# Altium schematic symbol library RPi_SyncInputAdapter_SchLib.SchLib: 8 symbols
Pins are listed as number, name and electrical type; pins without a type are passive.

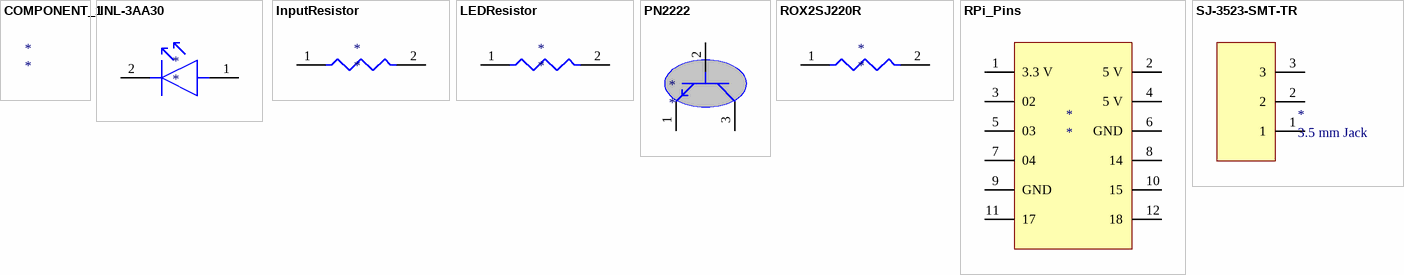
[diagram p0: symbols COMPONENT_1 to SJ-3523-SMT-TR]

## COMPONENT_1
designator *

## INL-3AA30
designator *
LED AMBER CLEAR 3MM T/H; Manufacturer: Inolux; Manufacturer Part Number: INL-3AA30; Lens Color: Colorless; Lens Style: Round,Domed; Luminous Intensity: 460mcd; Forward Voltage: 2V; Test Current: 20mA; Viewing Angle: 30°; Dominant Wavelength: 610nm; Supplier 1: Digi-Key; Supplier Part Number 1: 1830-1001-ND; Stock 1: 1251; Pricing 1: 1=0.32, 10=0.256, 100=0.115, 500=0.10388, 1000=0.08533, 2000=0.0742, 5000=0.06678, 10000=0.05936, 25000=0.05565 (USD); Mount: Through Hole; Case/Package: Radial; Color: Orange; Packaging: Bulk; Lens Transparency: Clear; Height: 5.08mm; Lens Size: 3mm; ComponentLink1URL: http://www.inolux-corp.com/datasheet/Display/Through-Hole-Display/Round-Lamp/INL-3AX30%20series.pdf?src-supplier=Digi-Key; ComponentLink1Description: http://www.inolux-corp.com/datasheet/Display/Through-Hole-Display/Round-Lamp/INL-3AX30%20series.pdf?src-supplier=Digi-Key
footprint LED
pins: 1, 2

## InputResistor
designator *
footprint TypicalResistor
pins: 1, 2

## LEDResistor
designator *
footprint TypicalResistor
pins: 1, 2

## PN2222
designator *
TRANS NPN 30V 0.6A TO92; Manufacturer: ON Semiconductor / Fairchild; Manufacturer Part Number: PN2222; hFE Min: 35; Max Power Dissipation: 625mW; Collector Base Voltage (VCBO): 60V; Emitter Base Voltage (VEBO): 5V; Max Collector Current: 600mA; Element Configuration: Single; Gain Bandwidth Product: 250MHz; Collector Emitter Saturation Voltage: 1.6V; Number of Elements: 1; Supplier 1: Digi-Key; Supplier Part Number 1: PN2222OS-ND; Stock 1: 0; Mount: Through Hole; Case/Package: TO-92-3; Number of Pins: 3; Min Operating Temperature: -55°C; Max Operating Temperature: 150°C; Polarity: NPN; Collector Emitter Voltage (VCEO): 30V; Packaging: Bulk; Package Quantity: 5000; Power Dissipation: 625mW; Frequency: 250MHz; Collector Emitter Breakdown Voltage: 30V; Transition Frequency: 250MHz; Collector-emitter Voltage-Max: 1.6V; Series: -; RoHS Compliant: No; ComponentLink1URL: http://www.onsemi.com/pub/Collateral/PN2222-D.PDF?src-supplier=Digi-Key; ComponentLink1Description: http://www.onsemi.com/pub/Collateral/PN2222-D.PDF?src-supplier=Digi-Key
footprint PN2222_Transistor
pins: 1, 2, 3

## ROX2SJ220R
designator *
Through Hole Resistor, ROX Series, 220 ohm, 2 W, 5%, 350 V, Axial Leaded ;RoHS Compliant: Yes; Manufacturer: TE Connectivity; Manufacturer Part Number: ROX2SJ220R; Resistance: 220R; Power Rating: 2W; Temperature Coefficient: 350ppm/°C; Voltage Rating: 350V; Number of Resistors: 1; Lead Length: 25mm; Supplier 1: Digi-Key; Supplier Part Number 1: A105924CT-ND; Stock 1: 2941; Pricing 1: 1=0.37, 10=0.31, 25=0.2256, 50=0.1636, 100=0.1213, 250=0.09308, 500=0.07334 (USD); Mount: Axial; Case/Package: Axial; Min Operating Temperature: -55°C; Max Operating Temperature: 235°C; Tolerance: 5%; Resistor Type: Power resistor; Termination: Axial; Packaging: Cut Tape; Number of Terminations: 2; Series: ROX, Neohm; Max Power Dissipation: 2W; Voltage Rating (DC): 350V; Lead/Base Style: Axial; Resistance Tolerance: 5%; Diameter: 4mm; Length: 12mm; RoHS Compliant: Yes; REACH SVHC: No SVHC; ELV: Compliant; ComponentLink1URL: http://www.farnell.com/datasheets/1888337.pdf?src-supplier=Element14; ComponentLink1Description: http://www.farnell.com/datasheets/1888337.pdf?src-supplier=Element14; ComponentLink2URL: https://www.alliedelec.com/m/d/21e4c3905f5e93a8fef713959b1b7f62.pdf?src-supplier=Allied+Electronics; ComponentLink2Description: https://www.alliedelec.com/m/d/21e4c3905f5e93a8fef713959b1b7f62.pdf?src-supplier=Allied+Electronics
pins: 1, 2

## RPi_Pins
designator *
footprint RPi_Interface
pins: 1 3.3 V, 2 5 V, 3 02, 4 5 V, 5 03, 6 GND, 7 04, 8 14, 9 GND, 10 15, 11 17, 12 18

## SJ-3523-SMT-TR
designator *, comment 3.5 mm Jack
CONN JACK STEREO 3.5MM SMD R/A; Manufacturer: CUI; Manufacturer Part Number: SJ-3523-SMT-TR; Gender: Female; Shielding: Unshielded; Current Rating: 1A; Number of Conductors: 3; Number of Ports: 1; Voltage Rating: 12V; Supplier 1: Digi-Key; Supplier Part Number 1: CP-3523SJDKR-ND; Stock 1: 63484; Pricing 1: 1=0.94, 10=0.827, 25=0.778, 50=0.7456, 100=0.7133, 250=0.6484, 500=0.58358 (USD); Mount: Surface Mount; Contact Plating: Silver; Contact Material: Copper Alloy; Color: Black; Housing Material: Polyamide; Weight: 0.037038oz; Packaging: Cut Tape; Termination: SMD/SMT; Package Quantity: 1000; Connector Type: Jack; Orientation: Horizontal; Number of Positions: 3; Lead Free: Lead Free; ComponentLink1URL: https://www.digikey.com/en/products/detail/cui-devices/SJ-3523-SMT-TR/669704; ComponentLink1Description: https://www.digikey.com/en/products/detail/cui-devices/SJ-3523-SMT-TR/669704
footprint 3PolesAudioJack_SMD
pins: 1, 2, 3